# Altium schematic symbol library HP45.SCHLIB: 2 symbols
Pins are listed as number, name and electrical type; pins without a type are passive.

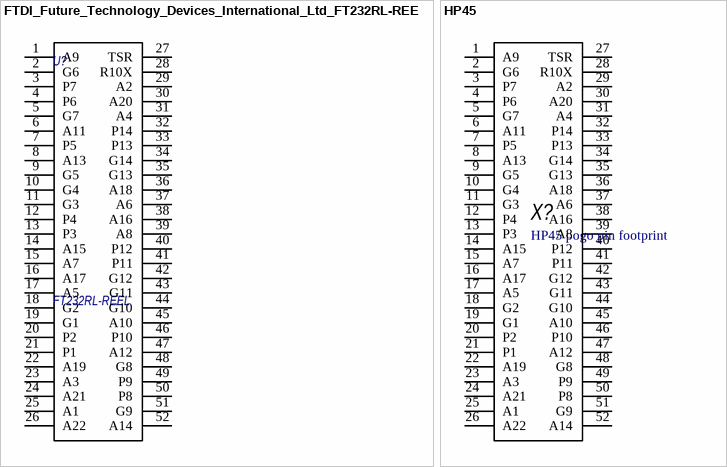
[diagram p0: symbols FTDI_Future_Technology_Devices_International_Ltd_FT232RL-REEL to HP45]

## FTDI_Future_Technology_Devices_International_Ltd_FT232RL-REEL
designator U?, comment FT232RL-REEL
IC USB FS SERIAL UART 28-SSOP; Manufacturer: FTDI, Future Technology Devices International Ltd; Identifier: FTDI_Future_Technology_Devices_International_Ltd_FT232RL-REEL; Voltage - Supply: 3.3V ~ 5.25V; Part Number: FT232RL-REEL; Supplier 1: Digi-key; Supplier Part Number 1: 768-1007-1-ND; Supplier 2: ChipDip; Supplier Part Number 2: 201330607; Supplier 3: Terraelectronica; Supplier Part Number 3: 195521; Supplier Link: https://www.chipdip.ru/product/ft232rl; Supplier 4: Platan; Supplier 5: Mouser; Supplier 6: Farnell; Supplier 7: Brownbear; Supplier 8: Aliexpress; ComponentLink1Description: Datasheet; ComponentLink1URL: https://www.ftdichip.com/Support/Documents/DataSheets/ICs/DS_FT232R.pdf; HelpURL: https://www.ftdichip.com/Support/Documents/DataSheets/ICs/DS_FT232R.pdf; Protocol: USB; Interface: UART; Package: 28-SSOP
footprint HP45
pins: 1 A9, 2 G6, 3 P7, 4 P6, 5 G7, 6 A11, 7 P5, 8 A13, 9 G5, 10 G4, 11 G3, 12 P4, 13 P3, 14 A15, 15 A7, 16 A17, 17 A5, 18 G2, 19 G1, 20 P2, 21 P1, 22 A19, 23 A3, 24 A21, 25 A1, 26 A22, 27 TSR, 28 R10X, 29 A2, 30 A20, 31 A4, 32 P14, 33 P13, 34 G14, 35 G13, 36 A18, 37 A6, 38 A16, 39 A8, 40 P12, 41 P11, 42 G12, 43 G11, 44 G10, 45 A10, 46 P10, 47 A12, 48 G8, 49 P9, 50 P8, 51 G9, 52 A14

## HP45
designator X?, comment HP45 pogo pin footprint
footprint HP45
pins: 1 A9, 2 G6, 3 P7, 4 P6, 5 G7, 6 A11, 7 P5, 8 A13, 9 G5, 10 G4, 11 G3, 12 P4, 13 P3, 14 A15, 15 A7, 16 A17, 17 A5, 18 G2, 19 G1, 20 P2, 21 P1, 22 A19, 23 A3, 24 A21, 25 A1, 26 A22, 27 TSR, 28 R10X, 29 A2, 30 A20, 31 A4, 32 P14, 33 P13, 34 G14, 35 G13, 36 A18, 37 A6, 38 A16, 39 A8, 40 P12, 41 P11, 42 G12, 43 G11, 44 G10, 45 A10, 46 P10, 47 A12, 48 G8, 49 P9, 50 P8, 51 G9, 52 A14